# Altium schematic symbol library B4P-VH.SchLib: 1 symbol
Pins are listed as number, name and electrical type; pins without a type are passive.

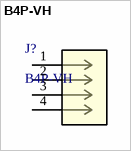
[diagram p0: symbol B4P-VH]

## B4P-VH
designator J?
Description; Manufacturer_Name: JST; Copyright: Copyright (C) 2026 Ultra Librarian. All rights reserved.; Manufacturer_Part_Number: B4P-VH; RefDes: RefDes; Type: Type
footprint CONN_B4P-VH_JST
pins: 1, 2, 3, 4